# Altium schematic symbol library miscellaneous.SchLib: 34 symbols
Pins are listed as number, name and electrical type; pins without a type are passive.

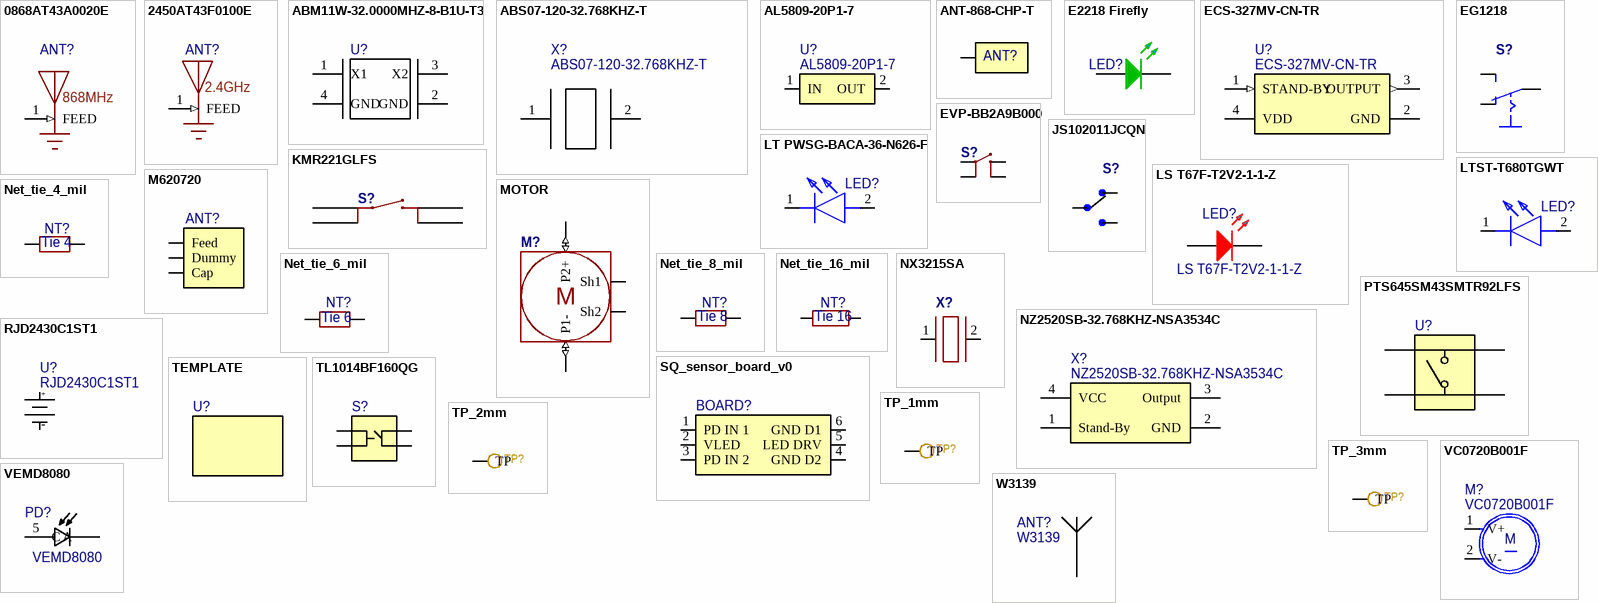
[diagram p0: symbols 0868AT43A0020E to W3139]

## 0868AT43A0020E
designator ANT?
ANT RF 868MHZ CHIP SOLDER SMD / Antenna 868mhz For Ti Cc11xx; Manufacturer: Johanson Technology; Manufacturer Part Number: 0868AT43A0020E; Link: https://www.digikey.co.uk/product-detail/en/johanson-technology-inc/0868AT43A0020E/712-1399-1-ND/1833757?utm_source=snapeda&utm_medium=aggregator&utm_campaign=symbol; Supplier: Digikey; Supplier Part Number: 712-1399-1-ND; Price 1 Unit USD: 0.93; Price 1000+ Units USD: 0.36
footprint ANT_0868AT43A0020R
pins: 1 FEED (in)
text: 868MHz

## 2450AT43F0100E
designator ANT?
ANT RF 2.4GHZ CHIP SOLDER SMD; Manufacturer: Johanson Technology Inc.; Manufacturer Part Number: 2450AT43F0100E; ComponentLink1Description: Manufacturer URL; ComponentLink2Description: Datasheet; Link: https://www.digikey.com/en/products/detail/johanson-technology-inc/2450AT43F0100E/4824788; Supplier Part Number: 712-1600-1-ND; Supplier: Digikey; Price 1000+ Units USD: 0.36; Price 1 Unit USD: 0.84
footprint ANT_2450AT43F0100E (RF ANT 2.4GHZ CHIP SOLDER SMD)
pins: 1 FEED (in)
text: 2.4GHz

## ABM11W-32.0000MHZ-8-B1U-T3
designator U?
CRYSTAL 32.0000MHZ 8PF SMD; Manufacturer: Abracon LLC; Manufacturer Part Number: ABM11W-32.0000MHZ-8-B1U-T3; ComponentLink1Description: Manufacturer URL; ComponentLink2Description: Datasheet; Link: https://www.digikey.com/product-detail/en/abracon-llc/ABM11W-32-0000MHZ-8-B1U-T3/535-13899-1-ND/7173084; Supplier Part Number: 535-13899-1-ND; Supplier: Digikey; Price 1000+ Units USD: 0.43; Price 1 Unit USD: 0.75
footprint XTAL_32MHz_ABM11W-32.0000MHZ-8-B1U-T3 (CRYSTAL 32.0000MHZ 8PF SMD)
pins: 1 X1, 2 GND, 3 X2, 4 GND

## ABS07-120-32.768KHZ-T
designator X?  Manufacturer Part Number: ABS07-120-32.768KHZ-T
CRYSTAL 32.7680KHZ 6PF SMD; Manufacturer: Abracon LLC; ComponentLink1Description: Manufacturer URL; ComponentLink2Description: Datasheet; Link: https://www.digikey.com/product-detail/en/abracon-llc/ABS07-120-32-768KHZ-T/535-11937-6-ND/3724045; Supplier Part Number: 535-11937-6-ND; Supplier: Digikey; Price 1000+ Units USD: 0.44; Price 1 Unit USD: 0.77
footprint ABS07-120-32.768KHZ-T
pins: 1, 2

## AL5809-20P1-7
designator U?  Manufacturer Part Number: AL5809-20P1-7
IC LED DRVR LIN PWM 20MA PDI12; Manufacturer: Diodes Incorporated; ComponentLink1Description: Manufacturer URL; ComponentLink2Description: Datasheet; Link: https://www.digikey.com/en/products/detail/diodes-incorporated/AL5809-20P1-7/5030209; Supplier Part Number: AL5809-20P1-7DICT-ND; Supplier: Digikey; Price 1000+ Units USD: 0.18; Price 1 Unit USD: 0.52
footprint AL5809-20P1-7 (IC LED DRVR LIN PWM 20MA PDI12)
pins: 1 IN, 2 OUT

## ANT-868-CHP-T
designator ANT?
ANT RF 868MHZ CHIP SOLDER SMD; Manufacturer: Linx Technologies Inc.; Manufacturer Part Number: ANT-868-CHP-T; ComponentLink1Description: Manufacturer URL; ComponentLink2Description: Datasheet; Link: https://www.digikey.com/en/products/detail/linx-technologies-inc/ANT-868-CHP-T/1534434; Supplier Part Number: ANT-868-CHP-TCT-ND; Supplier: Digikey; Price 1000+ Units USD: 2.4; Price 1 Unit USD: 2.7
footprint ANT-868-CHP-T (RF ANT 868MHZ CHIP SOLDER SMD)
pins: 1

## E2218 Firefly
designator LED?
Standard LEDs - SMD Green 536nm Firefly E2218; Manufacturer: OSRAM Opto Semiconductors; Manufacturer Part Number: CT DBLP31.12-6C5D-56-J6U6-20-R18; ComponentLink1Description: Manufacturer URL; ComponentLink2Description: Datasheet; Link: https://www.mouser.com/ProductDetail/OSRAM-Opto-Semiconductors/CT-DBLP3112-6C5D-56-J6U6-20-R18?qs=%2Fha2pyFaduiNmrPKCeLFLNmr05UtqA9FnuqbsBhf9C91hO%252BjSpXCl8XD0XlDpPmw; Supplier Part Number: 720-CTDBLP31A6091; Supplier: Mouser; Price 1000+ Units USD: 0.31; Price 1 Unit USD: 0.94
footprint E2218 Firefly
pins: 1, 2

## ECS-327MV-CN-TR
designator U?  Manufacturer Part Number: ECS-327MV-CN-TR
CRYSTAL OSC XO 32.7680KHZ CMOS SMD; Manufacturer: ECS Inc.; ComponentLink1Description: Manufacturer URL; ComponentLink2Description: Datasheet; Link: https://www.digikey.com/en/products/detail/ecs-inc/ECS-327MV-CN-TR/9385251; Supplier Part Number: XC2835CT-ND; Supplier: Digikey; Price 1000+ Units USD: 1.4; Price 1 Unit USD: 2.15
footprint ECS-327MV-CN-TR (XTAL OSC XO 32.7680KHZ CMOS SMD)
pins: 1 STAND-BY (in), 2 GND (power), 3 OUTPUT (out), 4 VDD (power)

## EG1218
designator S?
SWITCH SLIDE SPDT 200MA 30V; Manufacturer: E-Switch; Manufacturer Part Number: EG1218; Supplier: Digikey; Link: https://www.digikey.com/product-detail/en/e-switch/EG1218/EG1903-ND/101726; Supplier Part Number: EG1903-ND; Price 1000+ Units USD: 0.37; Price 1 Unit USD: 0.67
footprint EG1218 (Slide switch)
pins: O, P, S

## EVP-BB2A9B000
designator S?
SWITCH TACTILE SPST-NO 0.02A 15V; Manufacturer: Panasonic Electronic Components; Manufacturer Part Number: EVP-BB2A9B000; Supplier: Digikey; Link: https://www.digikey.com/en/products/detail/panasonic-electronic-components/EVP-BB2A9B000/6212409; Supplier Part Number: P19888CT-ND; Price 1000+ Units USD: 0.23; Price 1 Unit USD: 0.52
footprint BUTTON_EVP-BB2A9B000 (SWITCH TACTILE SPST-NO 0.02A 15V)
pins: A1, A2, B1, B2

## JS102011JCQN
designator S?
SWITCH SLIDE SPDT 300MA 6V 3 ways; Manufacturer: C&K; Manufacturer Part Number: JS102011JCQN; Supplier: Digikey; Link: https://www.digikey.com/product-detail/en/c-k/JS102011JCQN/CKN10721CT-ND/6137635; Supplier Part Number: CKN10721CT-ND; Price 1000+ Units USD: 0.37; Price 1 Unit USD: 0.67
footprint JS102011JCQN (3 ways slide switch)
pins: 1, 2, 3

## KMR221GLFS
designator S?
SWITCH TACTILE SPST-NO 0.05A 32V / Push Button Tactile; Manufacturer: C&K; Manufacturer Part Number: KMR221GLFS; Supplier: Digikey; Link: https://www.digikey.co.uk/product-detail/en/c-k/KMR221GLFS/401-1427-2-ND/550472; Supplier Part Number: 401-1427-2-ND; Price 1000+ Units USD: 0.23; Price 1 Unit USD: 0.52
footprint KMR221GLFS (Footprint not found)
pins: 1, 2, 3, 4

## LS T67F-T2V2-1-1-Z
designator LED?  Manufacturer Part Number: LS T67F-T2V2-1-1-Z
LED RED CLEAR 2PLCC SMD; Manufacturer: OSRAM Opto Semiconductors Inc.; ComponentLink1Description: Manufacturer URL; ComponentLink2Description: Datasheet; Link: https://www.digikey.com/en/products/detail/osram-opto-semiconductors-inc/LS-T67F-T2V2-1-1-Z/2205635; Supplier Part Number: 475-3017-1-ND; Supplier: Digikey; Price 1000+ Units USD: 0.09; Price 1 Unit USD: 0.39
footprint LS T67F-T2V2-1-1-Z (LED RED CLEAR 2PLCC SMD)
pins: 1, 2

## LT PWSG-BACA-36-N626-F
designator LED?
Standard LEDs - SMD Green POINTLED TF; Manufacturer: OSRAM Opto Semiconductors; Manufacturer Part Number: LT PWSG-BACA-36-N626-F; ComponentLink1Description: Manufacturer URL; ComponentLink2Description: Datasheet; Link: https://www.mouser.com/ProductDetail/OSRAM-Opto-Semiconductors/LT-PWSG-BACA-36-N626-F/?qs=sGAEpiMZZMt82OzCyDsLFPwAJp7W4ah5EwlQG%2FKjAqQ%3D; Supplier Part Number: 720-LTPWSGA9119; Supplier: Mouser; Price 1000+ Units USD: 0.24; Price 1 Unit USD: 0.74
footprint LT PWSG-BACA-36-N626-F (Standard LEDs - SMD Green POINTLED TF)
pins: 1 K, 2 A

## LTST-T680TGWT
designator LED?
Green 528nm LED Indication - Discrete 3.3V 2-LCC (J-Lead); Manufacturer: Lite-On Inc.; Manufacturer Part Number: LTST-T680TGWT; ComponentLink1Description: Manufacturer URL; ComponentLink2Description: Datasheet; Link: https://www.digikey.co.uk/en/products/detail/liteon/LTST-T680TGWT/5231361
footprint LTST-T680TGWT (LED GREEN DIFFUSED 2SMD)
pins: 1 K, 2 A

## M620720
designator ANT?
ANT RF 868MHZ/915MHZ CHIP SLD; Manufacturer: Ethertronics/AVX; Manufacturer Part Number: M620720; ComponentLink1Description: Manufacturer URL; ComponentLink2Description: Datasheet; Link: https://www.digikey.com/en/products/detail/ethertronics-avx/M620720/6072490; Supplier Part Number: 939-1066-1-ND; Supplier: Digikey; Price 1000+ Units USD: 0.91; Price 1 Unit USD: 1.86
footprint ANT_M620720 (RF ANT 868MHZ/915MHZ CHIP SLD)
pins: 1 Feed, 2 Dummy, 3 Cap

## MOTOR
designator M?
VIBRATION MOTOR CYL 3V SMD; Manufacturer: Jinlong Machinery & Electronics, Inc.; Manufacturer Part Number: Z4FC1B1301781; Supplier: Digikey; Link: https://www.digikey.com/product-detail/en/jinlong-machinery-electronics-inc/Z4FC1B1301781/1670-1011-1-ND/6009936; Supplier Part Number: 1670-1011-1-ND; Price 1 Unit USD: 3.49; Price 1000+ Units USD: 2.08
footprint MOTOR
pins: 1- P1- (io), 2+ P2+ (io), 3 Sh1, 4 Sh2
text: M

## Net_tie_4_mil
designator NT?  (net tie, no BOM)
Net tie
footprint NET_TIE_4_mil
pins: 1, 2
text: Tie 4

## Net_tie_6_mil
designator NT?  (net tie, no BOM)
Net tie
footprint NET_TIE_6_mil
pins: 1, 2
text: Tie 6

## Net_tie_8_mil
designator NT?  (net tie, no BOM)
Net tie
footprint NET_TIE_8_mil
pins: 1, 2
text: Tie 8

## Net_tie_16_mil
designator NT?  (net tie, no BOM)
Net tie
footprint NET_TIE_16_MIL
pins: 1, 2
text: Tie 16

## NX3215SA
designator X?
CRYSTAL 32.768KHZ 12.5PF SMD; Manufacturer: NDK America, Inc.; Manufacturer Part Number: NX3215SA-32.768K-EXS00A-MU00003; Supplier: Digikey; Link: https://www.digikey.com/product-detail/en/ndk-america-inc/NX3215SA-32.768K-EXS00A-MU00003/644-1313-1-ND/7645335; Supplier Part Number: 644-1313-1-ND; Price 1000+ Units USD: 0.68; Price 1 Unit USD: 0.39
footprint NX3215SA (CRYSTAL 32.768KHZ 12.5PF SMD)
pins: 1, 2

## NZ2520SB-32.768KHZ-NSA3534C
designator X?  Manufacturer Part Number: NZ2520SB-32.768KHZ-NSA3534C
XTAL OSC XO 32.7680KHZ CMOS SMD; Manufacturer: NDK America, Inc.; ComponentLink1Description: Manufacturer URL; ComponentLink2Description: Datasheet; Link: https://www.digikey.com/product-detail/en/ndk-america-inc/NZ2520SB-32-768KHZ-NSA3534C/644-1197-1-ND/3727447; Supplier Part Number: 644-1197-1-ND; Supplier: Digikey; Price 1000+ Units USD: 0.89; Price 1 Unit USD: 1.36
footprint NZ2520SB-32.768
pins: 1 Stand-By, 2 GND, 3 Output, 4 VCC

## PTS645SM43SMTR92LFS
designator U?
SWITCH TACTILE SPST-NO 0.05A 12V; Manufacturer: C&K; Manufacturer Part Number: PTS645SM43SMTR92LFS; ComponentLink1Description: Manufacturer URL; ComponentLink2Description: Datasheet; Link: https://www.digikey.sg/en/products/detail/c-k/PTS645SM43SMTR92-LFS/1146934; Price 1000+ Units USD: 0.27; Price 1 Unit USD: 0.39
footprint PTS645SM43SMTR92LFS (SWITCH TACTILE SPST-NO 0.05A 12V)
pins: 1, 2, 3, 4

## RJD2430C1ST1
designator U?  Manufacturer Part Number: RJD2430C1ST1
BATTERY LITHIUM 110mAh 3.7V COIN 24.5MM; Manufacturer: Illinois Capacitor; ComponentLink1Description: Manufacturer URL; ComponentLink2Description: Datasheet; Link: https://www.digikey.com/en/products/detail/illinois-capacitor/RJD2430C1ST1/6596418?s=N4IgTCBcDaIEoCkAiYAsBmADAYQIwGUAVXEAXQF8g; Supplier Part Number: 1572-1630-ND; Supplier: Digikey; Price 1000+ Units USD: 7.00; Price 1 Unit USD: 11.00
footprint COIN_BAT_110_MAH_RJD2430C1ST1 (BATTERY LITHIUM 110mAh 3.7V COIN 24.5MM)
pins: 1 +, 2 -

## SQ_sensor_board_v0
designator BOARD?
Sensor board for the compute unit; ComponentLink1Description: Manufacturer URL; ComponentLink2Description: Datasheet; Supplier: Digikey
footprint SQ_sensor_board_v0 (Sensor board for the compute unit)
pins: 1 PD IN 1, 2 VLED, 3 PD IN 2, 4 GND D2, 5 LED DRV, 6 GND D1

## TEMPLATE
designator U?
ComponentLink1Description: Manufacturer URL; ComponentLink2Description: Datasheet

## TL1014BF160QG
designator S?
SWITCH TACTILE SPST-NO 0.05A 12V; Manufacturer: E-Switch; Manufacturer Part Number: TL1014BF160QG; ComponentLink1Description: Manufacturer URL; ComponentLink2URL: http://spec_sheets.e-switch.com/specs/P410002.pdf; ComponentLink2Description: Datasheet; Link: https://www.digikey.com/product-detail/en/e-switch/TL1014BF160QG/EG5042CT-ND/3910808; Supplier Part Number: EG5042CT-ND; Supplier: Digikey; Price 1000+ Units USD: 0.40; Price 1 Unit USD: 0.65
footprint BUTTON_TL1014BF160QG (Push button side actuator)
pins: 1, 2, 3, 4

## TP_1mm
designator TP?
Test point 1mm diameter; ComponentLink1Description: Manufacturer URL; ComponentLink2Description: Datasheet; Supplier: Digikey
footprint TP_1mm
pins: 1 TP

## TP_2mm
designator TP?
Test point 2mm diameter; ComponentLink1Description: Manufacturer URL; ComponentLink2Description: Datasheet; Supplier: Digikey
footprint TP_2mm
pins: 1 TP

## TP_3mm
designator TP?
Test point 2mm diameter; ComponentLink1Description: Manufacturer URL; ComponentLink2Description: Datasheet; Supplier: Digikey
footprint TP_3mm
pins: 1 TP

## VC0720B001F
designator M?  Manufacturer Part Number: VC0720B001F
DC Motor Vibration, ERM 10000 RPM   3VDC; Manufacturer: Jinlong Machinery & Electronics, Inc.; ComponentLink1Description: Manufacturer URL; ComponentLink2Description: Datasheet; Link: https://www.digikey.com/en/products/detail/jinlong-machinery-electronics-inc/C0720B001F/6009905; Supplier Part Number: Jinlong Machinery & Electronics, Inc.; Supplier: Digikey; Price 1000+ Units USD: 2.30; Price 1 Unit USD: 3.50
footprint C0720B001F (VIBRATION ERM MTR 10000 RPM 3V)
pins: 1 V+ (power), 2 V- (power)
text: M

## VEMD8080
designator PD?  Manufacturer Part Number: VEMD8080
PHOTODIODE 780 TO 1050 NM; Manufacturer: Vishay Semiconductor Opto Division; ComponentLink1Description: Manufacturer URL; ComponentLink2Description: Datasheet; Link: https://www.digikey.com/product-detail/en/vishay-semiconductor-opto-division/VEMD8080/VEMD8080CT-ND/8602548; Supplier Part Number: VEMD8080CT-ND; Supplier: Digikey; Price 1000+ Units USD: 0.8; Price 1 Unit USD: 2.17
footprint VEMD8080
pins: 1 C, 2 C, 3 C, 4 C, 5 A, 6 C, 7 C, 8 C

## W3139
designator ANT?  Manufacturer Part Number: W3139
ANTENNA HELIX SMT ISM868/915; Manufacturer: PulseLarsen Antennas; ComponentLink1Description: Manufacturer URL; ComponentLink2Description: Datasheet; Link: https://www.digikey.com/en/products/detail/pulselarsen-antennas/W3139/9817201; Price 1000+ Units USD: 1.13; Price 1 Unit USD: 1.92
footprint W3139 (ANTENNA HELIX SMT ISM868/915)
pins: 1